# EAGLE library part 01STANDARD_EP7_THT_6PIN (library Wurth Electronics Midcom Inc V1-0)
Package Style: Standard EP7 Mounting: Pins: 6 pins Bobbin: 070-2150 Website: Wurth Electronics Midcom <http://www.we-online.com/midcom> Contact us Wurth Electronics Midcom, Inc. 121 Airport Dr. Watertown, SD 57201 Phone: (605) 886-4385 Fax: (605) 886-4486 E-Mail: midcom@we-online.com
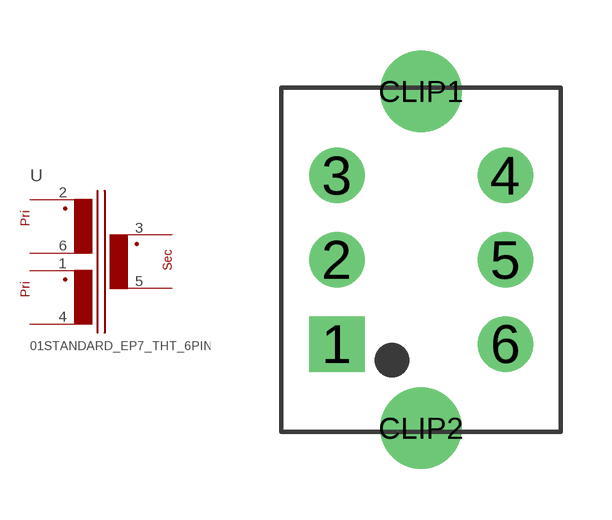
[diagram p177: symbol with the pads of 01STANDARD_EP7_THT_6PIN; footprint 01STANDARD_EP7_THT_6PIN]

Designator prefix -

## 01STANDARD_EP7_THT_6PIN  [01STANDARD_EP7_THT_6PIN]
1  1  pas
2  3  pas
3  5  pas
4  6  pas
5  4  pas
6  2  pas

## Footprint 01STANDARD_EP7_THT_6PIN (pad centres in mm)
Package Style: Speedy EP7 Mounting: Pins: 6 pins Bobbin: 070-2150
drill 1.092 square: 1 -2.489,-2.489
drill 1.092 round: 2 -2.489,0; 3 -2.489,2.489; 4 2.489,2.489; 5 2.489,0; 6 2.489,-2.489
drill 1.6 round: CLIP1 0,4.978; CLIP2 0,-4.978